# Altium schematic symbol library Diode_S2G.Schlib: 1 symbol
Pins are listed as number, name and electrical type; pins without a type are passive.

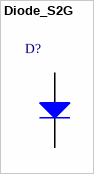
[diagram p0: symbol Diode_S2G]

## Diode_S2G
designator D?
DIODE GPP 1.5A 400V SMB
footprint DO-214AA (Footprint not found)
pins: 1 A, 2 K